# Altium footprint library Electro_Mechanical.PcbLib: 27 footprints (part 2 of 2)
Each footprint in its own frame and in the unit in brackets; x right, y up, seen from the top. Pads: shape width x height; smd on the part's side, far side on the other; paste and mask are expansions set on the pad; w line width, h text height; cw(c..) or ccw(c..) is an arc to the next point about the centre after c.
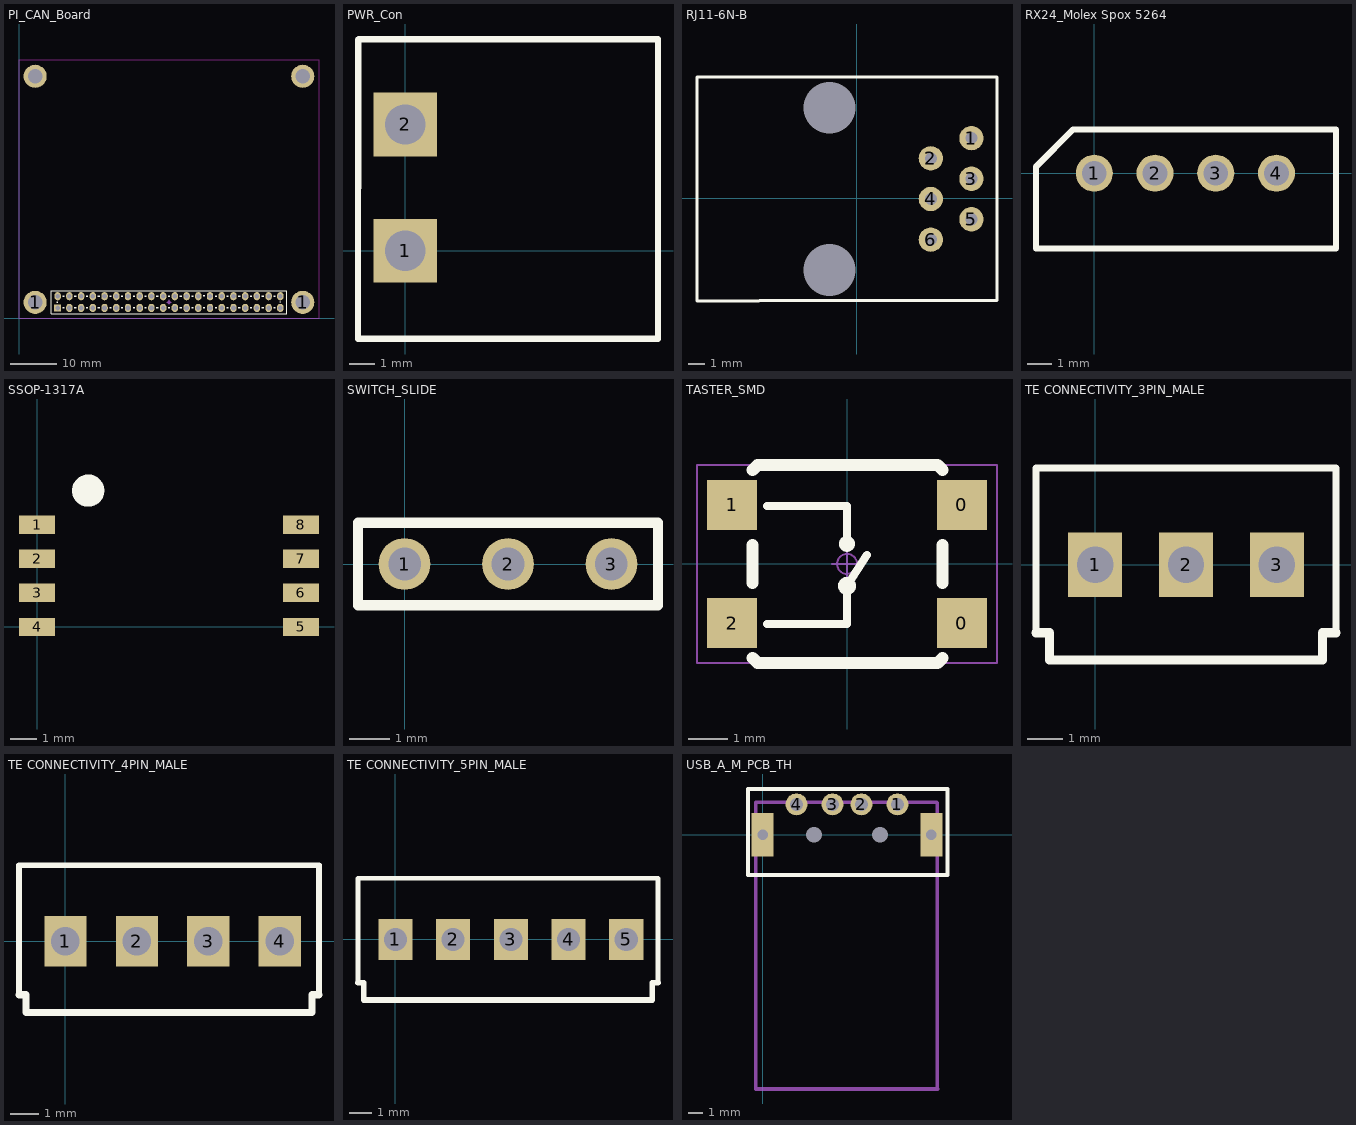
[diagram p1: the footprints below, top view; thin cyan lines are the x and y axes]

## PI_CAN_Board [mil]
pads (44):
  round 196.85 hole 125.98: 1(137.8,137.8) 1(2421.26,137.8) ""(137.8,2066.93) ""(2421.26,2066.93)
  rect 59.06x59.06 hole 40: 1(330,90)
  oval 55x70 hole 40: 2(330,190) 3(430,90) 4(430,190) 5(530,90) 6(530,190) 7(630,90) 8(630,190) 9(730,90) 10(730,190) 11(830,90) 12(830,190) 13(930,90) 14(930,190) 15(1030,90) 16(1030,190) 17(1130,90) 18(1130,190) 19(1230,90) 20(1230,190) 21(1330,90) 22(1330,190) 23(1430,90) 24(1430,190) 25(1530,90) 26(1530,190) 27(1630,90) 28(1630,190) 29(1730,90) 30(1730,190) 31(1830,90) 32(1830,190) 33(1930,90) 34(1930,190) 35(2030,90) 36(2030,190) 37(2130,90) 38(2130,190) 39(2230,90) 40(2230,190)
Top Overlay:
  lines w10: 275.59,39.37 2283.46,39.37 2283.46,236.22 275.59,236.22 275.59,39.37
  lines w12: 327,135 327,141 ; 373,90 387,90 ; 373,190 387,190 ; 473,90 487,90 ; 473,190 487,190 ; 573,90 587,90 ; 573,190 587,190 ; 673,90 687,90 ; 673,190 687,190 ; 773,90 787,90 ; 773,190 787,190 ; 873,90 887,90 ; 873,190 887,190 ; 973,90 987,90 ; 973,190 987,190 ; 1073,90 1087,90 ; 1073,190 1087,190 ; 1173,90 1187,90 ; 1173,190 1187,190 ; 1273,90 1287,90 ; 1273,190 1287,190 ; 1373,90 1387,90 ; 1373,190 1387,190 ; 1473,90 1487,90 ; 1473,190 1487,190 ; 1572,92 1586,92 ; 1572,192 1586,192 ; 1673,90 1687,90 ; 1673,190 1687,190 ; 1773,90 1787,90 ; 1773,190 1787,190 ; 1873,90 1887,90 ; 1873,190 1887,190 ; 1973,90 1987,90 ; 1973,190 1987,190 ; 2073,90 2087,90 ; 2073,190 2087,190 ; 2173,90 2187,90 ; 2173,190 2187,190 ; 2229,137 2229,143
Keep-Out Layer:
  lines w10: 0,0 0,2210 2560,2210 2560,0 0,0
Mechanical 15:
  circle w2: c1280,140 r10
  lines w2: 1260,140 1300,140 ; 1280,120 1280,160
3D body "User Library-Header 2x20 2_54mm.step": height 84.36, standoff -352.65, extent 275.19,40.57 2287,237.43

## PWR_Con [mm]
pads (2):
  rect 2.54x2.54 hole 1.6: 1(0,0) 2(0,5.029)
Top Overlay:
  lines w0.25: -1.88,-3.505 10.058,-3.505 10.058,8.357
  lines w0.254: -1.88,-3.48 -1.867,8.407 ; -1.854,8.423 10.058,8.423
3D body "Connector2EDGR-5.08_2P.stp": height 8.73, standoff -3.37, extent -2.007,-3.592 9.996,8.568

## RJ11-6N-B [mm] "RJ11 MODULAR JACK 6 POSITION, 1 PORT"
pads (8):
  round 1.524 hole 0.76: 1(7.19,3.76) 2(4.65,2.49) 3(7.19,1.22) 4(4.65,-0.05) 5(7.19,-1.32) 6(4.65,-2.59)
  round 0 hole 3.25: M1(-1.7,5.66) M2(-1.7,-4.5)
Top Overlay:
  lines w0.2: -9.982,-6.425 -9.982,7.575 8.788,7.575 8.788,-6.41 7.06,-6.41 -6.081,-6.41 -6.096,-6.425 -9.982,-6.425
3D body "User Library-XA53A-66-100111.STEP": height 11.5, standoff -3.8, extent -9.71,-6.01 8.49,7.29

## RX24_Molex Spox 5264 [mil] "2.50 mm"
pads (4):
  round 60 hole 40: 1(0,0) 2(98.43,0) 3(196.85,0) 4(295.28,0)
Top Overlay:
  lines w10: -94.49,-122.05 -94.49,10.51 -34.13,70.87 -21.65,70.87 391.73,70.87 391.73,0 391.73,-43.31 391.73,-114.17 391.73,-122.05 -94.49,-122.05
3D body "022035045.stp": height 236.14, standoff -133.94, extent -96.45,-122.83 391.74,70.09

## SSOP-1317A [mil]
pads (8):
  rect 53x27 smd: 1(0,150) 2(0,100) 3(0,50) 4(0,0) 5(387,0) 6(387,50) 7(387,100) 8(387,150)
Top Overlay:
  circle w25: c75,200 r11.18
3D body "User Library-ZlozenieMPXH6400A.STEP": height 381.89, standoff 1.18, extent -14.64,-84.8 404.64,240

## SWITCH_SLIDE [mm]
pads (3):
  round 1.27 hole 0.8: 1(0,0) 2(2.54,0) 3(5.08,0)
Top Overlay:
  lines w0.254: -1.143,-1.016 6.223,-1.016 6.223,1.016 -1.143,1.016 -1.143,-1.016

## TASTER_SMD [mil]
pads (4):
  rect 50x50 smd: 0(115,-59.06) 0(115,59.06) 1(-115,59.06) 2(-115,-59.06)
Top Overlay:
  circle w8: c0,-22 r5
  circle w8: c0,20.11 r3.94
  lines w8: -80,-60 0,-60 0,-22 20,9.06 ; -80,58.11 0,58.11 0,20.11
  lines w12: -94.25,-94.06 -89.25,-99.06 90.75,-99.06 95.75,-94.06 ; -94.25,-19.05 -94.25,18.94 ; -94.25,93.94 -89.25,98.94 90.75,98.95 95.75,93.94 ; 95.75,-19.05 95.75,18.94
Mechanical 15:
  circle w2: c0,0 r10
  lines w2: -15,0 15,0 ; 0,-15 0,15 ; -150,-99.06 150,-99.06 150,98.94 -150,98.94 -150,-99.06
3D body: height 130, standoff 100, extent -49.23,-50.04 50.73,49.92
3D body: height 110, standoff 100, extent 47.87,-86.31 77.86,-56.33
3D body: height 110, standoff 100, extent -76.51,-86.17 -46.53,-56.18
3D body: height 110, standoff 100, extent -76.37,56.22 -46.38,86.2
3D body: height 110, standoff 100, extent 48.02,56.07 78,86.06
3D body: height 105, standoff 100, extent -89.25,-99.06 90.75,98.94
3D body: height 100, standoff 0, extent -89.25,-99.06 90.75,98.94
3D body: height 20, standoff 0, extent 74,41.81 124,76.31
3D body: height 20, standoff 0, extent 74,-76.31 124,-41.8
3D body: height 20, standoff 0, extent -124,-76.31 -74,-41.81
3D body: height 20, standoff 0, extent -124,41.81 -74,76.31

## TE CONNECTIVITY_3PIN_MALE [mm] "BLUE_3PIN_CONECTOR"
pads (3):
  rect 1.5x1.8 hole 1.016: 1(0,0) 2(2.54,0) 3(5.08,0)
Top Overlay:
  lines w0.2: -1.651,-1.905 -1.651,2.7 6.731,2.7 6.731,-1.905
  lines w0.254: -1.651,-1.905 -1.27,-1.905 -1.27,-2.667 6.35,-2.667 6.35,-1.905 6.731,-1.905
3D body "c-281695-3-g-3d.stp": height 11.43, standoff -2.87, extent -1.27,-2.5 6.35,2.5

## TE CONNECTIVITY_4PIN_MALE [mm] "BLUE_4PIN_CONECTOR"
pads (4):
  rect 1.5x1.8 hole 1.016: 1(0,0) 2(2.54,0) 3(5.08,0) 4(7.62,0)
Top Overlay:
  lines w0.2: -1.651,-1.905 -1.651,2.7 9.017,2.7 9.017,-1.905
  lines w0.254: -1.651,-1.905 -1.397,-1.905 -1.397,-2.54 8.763,-2.54 8.763,-1.905 9.017,-1.905
3D body "c-281695-4-g-3d.stp": height 11.43, standoff -2.87, extent -1.27,-2.5 8.89,2.5

## TE CONNECTIVITY_5PIN_MALE [mm] "BLUE_5PIN_CONECTOR"
pads (5):
  rect 1.5x1.8 hole 1.016: 1(0,0) 2(2.54,0) 3(5.08,0) 4(7.62,0) 5(10.16,0)
Top Overlay:
  lines w0.2: -1.651,-1.905 -1.651,2.7 11.557,2.7 11.557,-1.905
  lines w0.254: -1.651,-1.905 -1.397,-1.905 -1.397,-2.667 11.303,-2.667 11.303,-1.905 11.557,-1.905
3D body "c-281695-5-g-3d.stp": height 11.43, standoff -2.87, extent -1.397,-2.46 11.303,2.54

## USB_A_M_PCB_TH [mil]
pads (8):
  round 60 hole 35: 1(368.5,83) 2(270,83) 3(191,83) 4(92.5,83)
  rect 60x120 hole 28 square: ""(0,0) ""(461,0)
  round 0 hole 43: ""(140,0) ""(321,0)
Top Overlay:
  lines w10: -40,-110 505,-110 505,125 -40,125 -40,-110
Mechanical 13:
  lines w10: -19,-695 478,-695 477,-694 477,87 475,89 -19,89 -19,-695
3D body "usb_a-usb_a-lp-c.stp": height 127.17, standoff -101.16, extent -19.15,-696.45 477.15,88